# Altium footprint library Modulos_Ftp.PcbLib: 1 footprints
Each footprint in its own frame and in the unit in brackets; x right, y up, seen from the top. Pads: shape width x height; smd on the part's side, far side on the other; paste and mask are expansions set on the pad; w line width, h text height; cw(c..) or ccw(c..) is an arc to the next point about the centre after c.
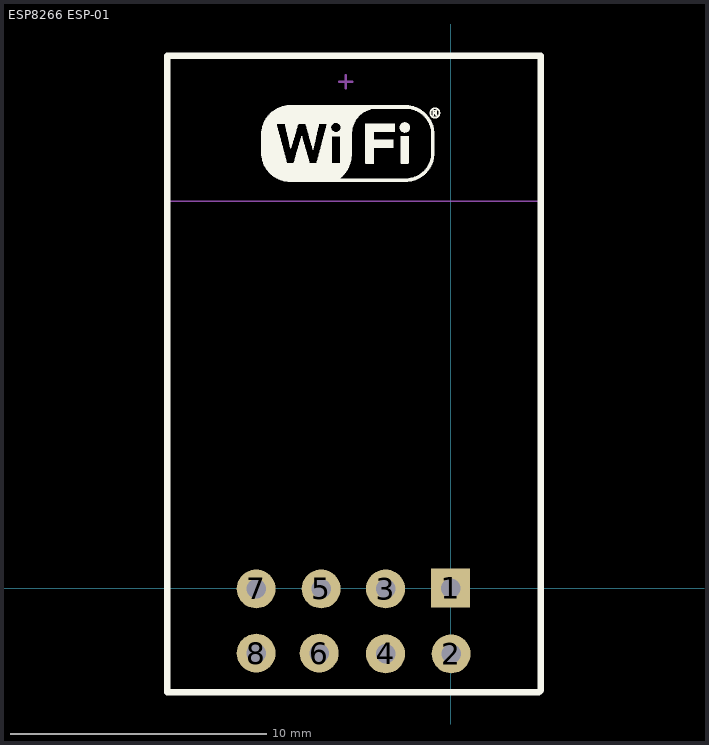
[diagram p0: the footprint, top view; thin cyan lines are the x and y axes]

## ESP8266 ESP-01 [mil]
pads (8):
  rect 60x60 hole 30: 1(0,0)
  round 60 hole 30: 2(1,-101) 3(-100,-1) 4(-100,-101) 5(-199,-1) 6(-202,-100) 7(-299,-1) 8(-299,-100)
Top Overlay:
  drawing of 1265 lines, arcs and shapes, not listed
  text ".Designator" at -451,-198 h39.37
Mechanical 13:
  lines w2: -435.96,594.97 139,594.97
  text "ANTENNA AREA" at -425.96,797.59 h10
  text "CUTOUT POLYGON" at -425.96,777.59 h10
Mechanical 15:
  lines w3.94: -171,778.92 -151,778.92 ; -161,768.92 -161,788.92
3D body: height 3.94, standoff -455.8, extent -436,-156 134.87,820.38